# Altium footprint library INN3947CQ.PcbLib: 1 footprints
Each footprint in its own frame and in the unit in brackets; x right, y up, seen from the top. Pads: shape width x height; smd on the part's side, far side on the other; paste and mask are expansions set on the pad; w line width, h text height; cw(c..) or ccw(c..) is an arc to the next point about the centre after c.
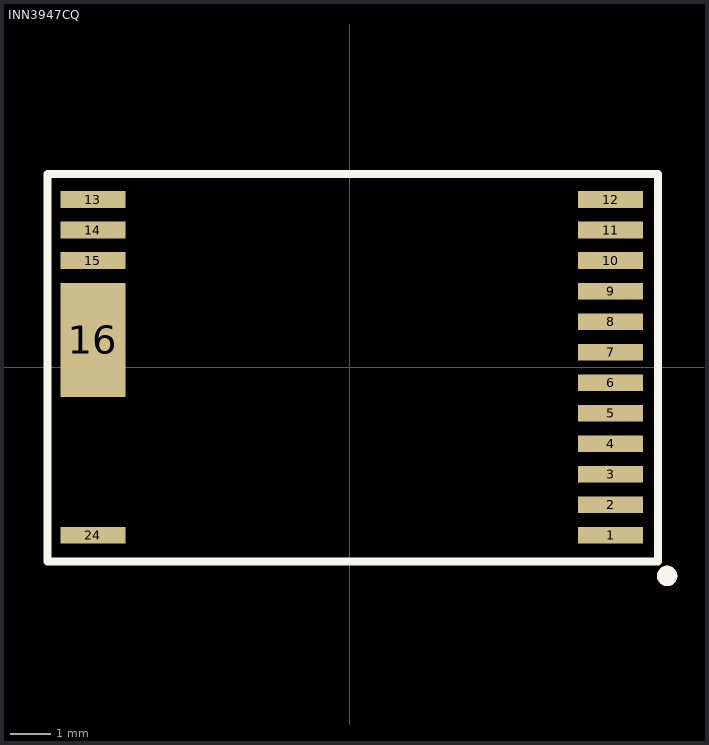
[diagram p0: the footprint, top view; thin cyan lines are the x and y axes]

## INN3947CQ [mm]
pads (17):
  rect 1.6x0.41 smd: 1(6.41,-4.125) 2(6.41,-3.375) 3(6.41,-2.625) 4(6.41,-1.875) 5(6.41,-1.125) 6(6.41,-0.375) 7(6.41,0.375) 8(6.41,1.125) 9(6.41,1.875) 10(6.41,2.625) 11(6.41,3.375) 12(6.41,4.125) 13(-6.31,4.125) 14(-6.31,3.375) 15(-6.31,2.625) 24(-6.31,-4.125)
  rect 1.6x2.81 smd: 16(-6.31,0.675)
Top Overlay:
  circle w0.25: c7.8,-5.125 r0.125
  lines w0.2: -7.425,-4.775 7.575,-4.775 7.575,4.75 -7.425,4.75 -7.425,-4.775
Top Assembly:
  text "'.Designator'" at 0.05,0 h0.7
Top Assembly (Mech5):
  circle w0.25: c7.8,-5.125 r0.125
  lines w0.1: -7.45,-4.775 7.55,-4.775 7.55,4.75 -7.45,4.75 -7.45,-4.775
3D body "InSOP-24D_1.STEP": height 1.6, standoff 0, extent -6.715,-4.7 6.715,4.7